# EAGLE library part A241-1258M1 (library saw-filters-narrowband)
A241-1258M1 Параметр Ед. изм. Мин. значение Тип. значение Макс. значение Центральная частота МГц 1257 1258 1259 Минимальное вносимое затухание дБ - 2.4 3.5 Полоса среза по уровню -2 дБ МГц 21 22 23 Полоса среза по уровню -28 дБ МГц - 60 60.5 Неравномерность АЧХ дБ - 0.6 1.5 Групповое время задержки нс - - - Гарантированное затухание дБ - 40 - Температурный диапазон °C -55 22 +85 Материал подложки - - Танталат лития 36 -
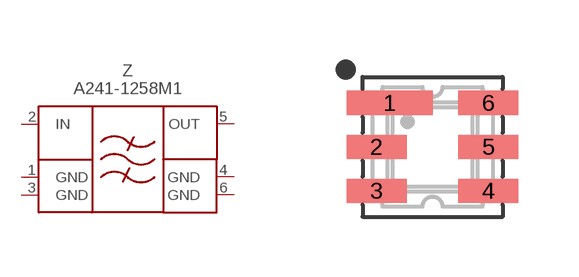
[diagram p48: symbol with the pads of DCC6; footprint DCC6]

Designator prefix Z

## A241-1258M1  [DCC6]
1  GND  pwr
2  IN  in
3  GND  pwr
4  GND  pwr
5  OUT  out
6  GND  pwr

## Footprint DCC6 (pad centres in mm)
smd 2.15 x 0.6: 1 -1.075,1.1
smd 1.5 x 0.6: 2 -1.4,0; 3 -1.4,-1.1; 4 1.4,-1.1; 5 1.4,0; 6 1.4,1.1